# Altium footprint library LFCSP-10_3x3.PcbLib: 1 footprints
Each footprint in its own frame and in the unit in brackets; x right, y up, seen from the top. Pads: shape width x height; smd on the part's side, far side on the other; paste and mask are expansions set on the pad; w line width, h text height; cw(c..) or ccw(c..) is an arc to the next point about the centre after c.
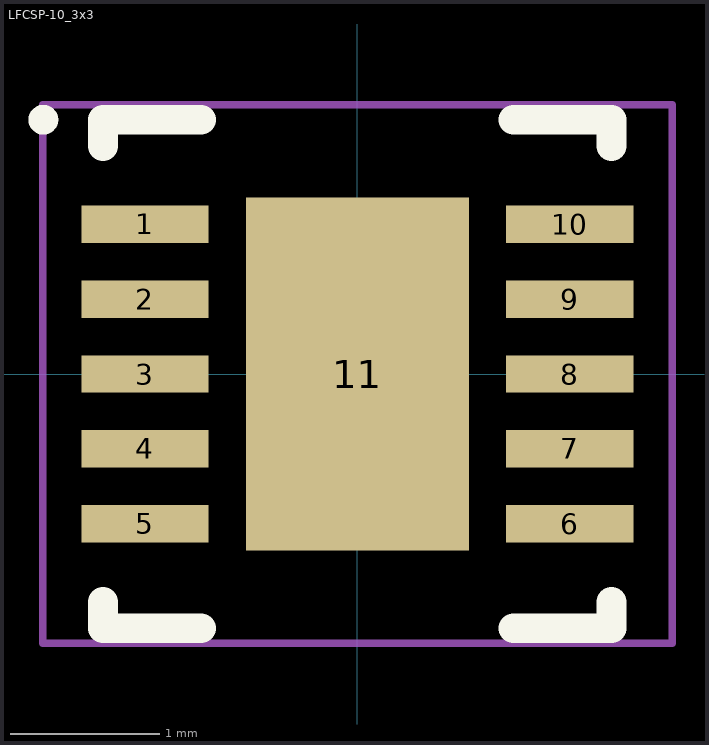
[diagram p0: the footprint, top view; thin cyan lines are the x and y axes]

## LFCSP-10_3x3 [mm] "LFCSP, 10-Leads, Body 3,00x3,00mm, Pitch 0,50mm, Thermal Pad 2,36x1,49mm, IPC Medium Density"
height 0.8
pads (11):
  rect 0.85x0.25 smd mask+0.05: 1(-1.42,1) 2(-1.42,0.5) 3(-1.42,0) 4(-1.42,-0.5) 5(-1.42,-1) 6(1.42,-1) 7(1.42,-0.5) 8(1.42,0) 9(1.42,0.5) 10(1.42,1)
  rect 1.49x2.36 smd mask+0.05: 11(0,0)
Top Overlay:
  circle w0.1: c-2.1,1.7 r0.05
  lines w0.2: -1.7,-1.525 -1.7,-1.7 -1.045,-1.7 ; -1.7,1.525 -1.7,1.7 -1.045,1.7 ; 1.045,-1.7 1.7,-1.7 1.7,-1.525 ; 1.045,1.7 1.7,1.7 1.7,1.525
Mechanical 15:
  lines w0.05: -2.105,-1.8 2.105,-1.8 2.105,1.8 -2.105,1.8 -2.105,-1.8
  lines w0.1: -0.5,0 0.5,0 ; 0,-0.5 0,0.5
3D body "LFCSP-10_3x3.step": height 0.8, standoff 0, extent -1.57,-1.55 1.57,1.55